# Altium footprint library PcbLib1.PcbLib: 3 footprints
Each footprint in its own frame and in the unit in brackets; x right, y up, seen from the top. Pads: shape width x height; smd on the part's side, far side on the other; paste and mask are expansions set on the pad; w line width, h text height; cw(c..) or ccw(c..) is an arc to the next point about the centre after c.
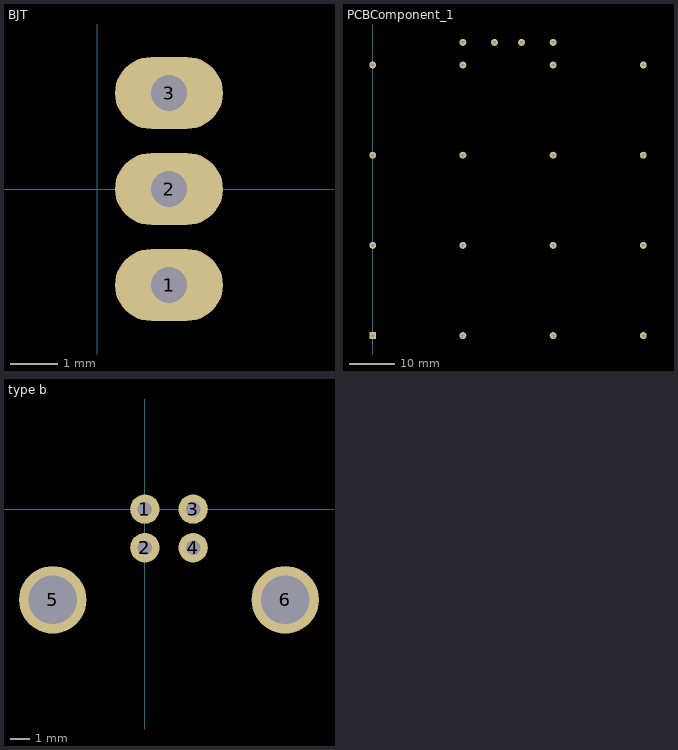
[diagram p0: the footprints below, top view; thin cyan lines are the x and y axes]

## BJT [mil]
pads (3):
  oval 90x60 hole 30: 1(60,-80) 2(60,0) 3(60,80)

## PCBComponent_1 [mil]
pads (20):
  rect 60x60 hole 30: 1(0,196.85)
  round 60 hole 30: 2(787.4,196.85) 3(1574.8,196.85) 4(2362.2,196.85) 5(0,984.25) 6(787.4,984.25) 7(1574.8,984.25) 8(2362.2,984.25) 9(0,1771.65) 10(787.4,1771.65) 11(1574.8,1771.65) 12(2362.2,1771.65) 13(0,2559.06) 14(787.4,2559.06) 15(1574.8,2559.06) 16(2362.2,2559.06) 17(787.4,2755.91) 18(1062.99,2755.91) 19(1299.21,2755.91) 20(1574.8,2755.91)

## type b [mm]
pads (6):
  round 1.524 hole 0.762: 1(0,0) 2(0,-2) 3(2.5,0) 4(2.5,-2)
  round 3.5 hole 2.5: 5(-4.775,-4.7) 6(7.275,-4.7)